# Altium footprint library Resistor_SMD.PcbLib: 49 footprints (part 4 of 4)
Each footprint in its own frame and in the unit in brackets; x right, y up, seen from the top. Pads: shape width x height; smd on the part's side, far side on the other; paste and mask are expansions set on the pad; w line width, h text height; cw(c..) or ccw(c..) is an arc to the next point about the centre after c.
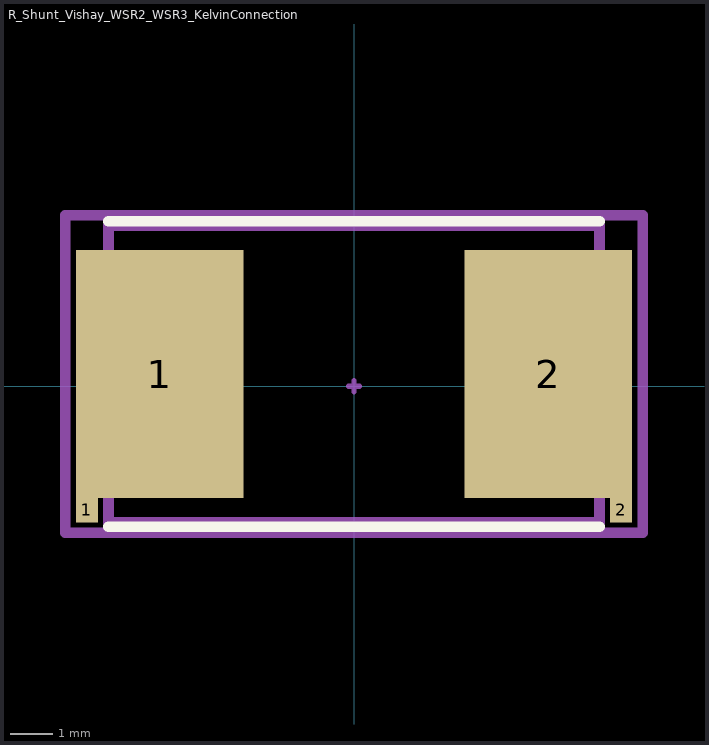
[diagram p3: the footprint, top view; thin cyan lines are the x and y axes]

## R_Shunt_Vishay_WSR2_WSR3_KelvinConnection [mm] "R_Shunt_Vishay_WSR2_WSR3_KelvinConnection"
pads (4):
  rect 0.51x0.6 smd: 1(-6.29,-2.91) 2(6.29,-2.91)
  rect 3.94x5.84 smd: 1(-4.575,0.29) 2(4.575,0.29)
F.SilkS:
  lines w0.254: -5.78,-3.31 5.78,-3.31 ; -5.78,3.89 5.78,3.89
Top Component Center:
  lines w0.127: -0.127,0 0.127,0 ; 0,-0.127 0,0.127
Top Assembly:
  lines w0.254: -5.78,-3.2 -5.78,3.78 5.78,3.78 5.78,-3.2 -5.78,-3.2
Top Courtyard:
  lines w0.254: -6.8,-3.45 -6.8,4.03 6.8,4.03 6.8,-3.45 -6.8,-3.45
Top Designator:
  text ".Designator" at -3.38,-0.339 h1.5